# Altium footprint library openmv-ae3.PcbLib: 51 footprints (part 1 of 4)
Each footprint in its own frame and in the unit in brackets; x right, y up, seen from the top. Pads: shape width x height; smd on the part's side, far side on the other; paste and mask are expansions set on the pad; w line width, h text height; cw(c..) or ccw(c..) is an arc to the next point about the centre after c.
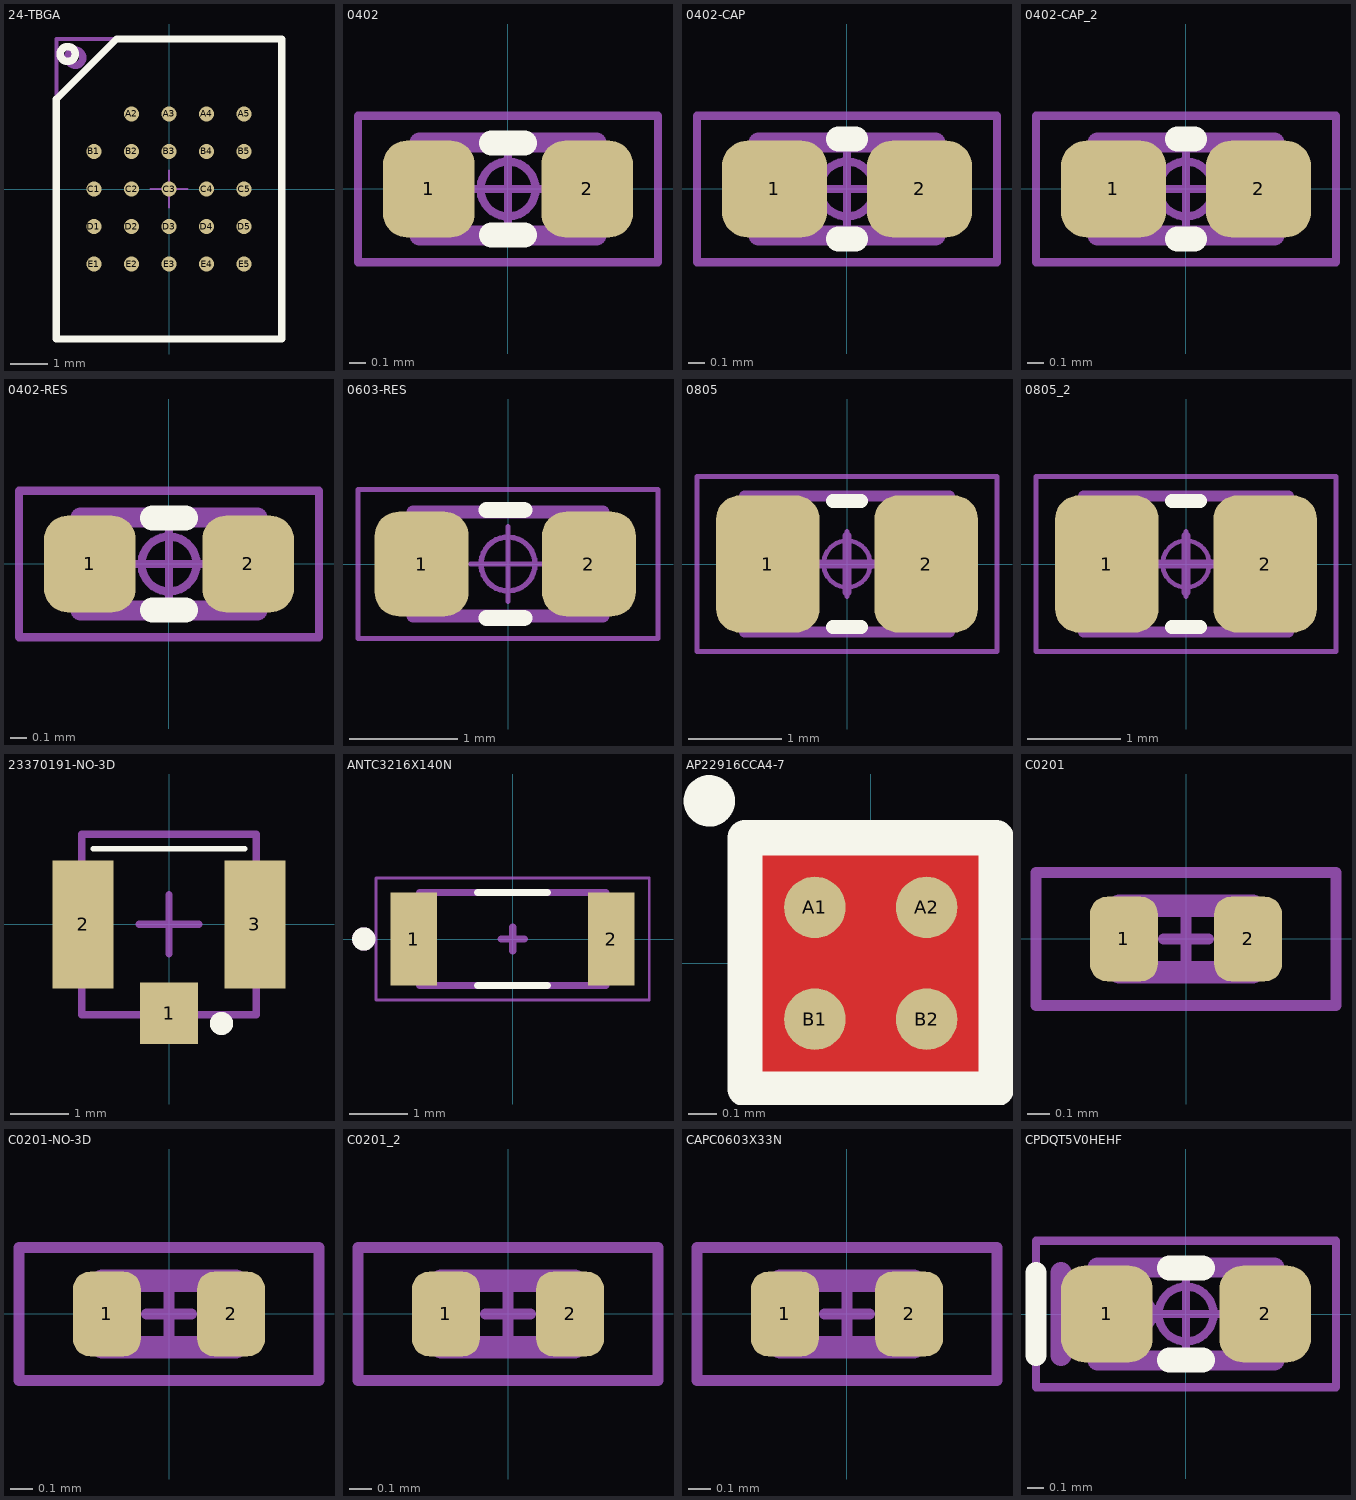
[diagram p0: the footprints below, top view; thin cyan lines are the x and y axes]

## 24-TBGA [mm]
pads (24):
  round 0.4 smd mask+0.051: A2(-1,2) A3(0,2) A4(1,2) A5(2,2) B1(-2,1) B2(-1,1) B3(0,1) B4(1,1) B5(2,1) C1(-2,0) C2(-1,0) C3(0,0) C4(1,0) C5(2,0) D1(-2,-1) D2(-1,-1) D3(0,-1) D4(1,-1) D5(2,-1) E1(-2,-2) E2(-1,-2) E3(0,-2) E4(1,-2) E5(2,-2)
Top Overlay:
  circle w0.2: c-2.7,3.6 r0.2
  lines w0.2: -3,-4 3,-4 3,4 -1.4,4 -3,2.4 -3,-4
Top 3D Body:
  circle w0.2: c-2.5,3.5 r0.2
  lines w0.051: -0.5,0 0,0 ; 0,-0.5 0,0 ; 0,0.5 0,0 ; 0.5,0 0,0
  lines w0.1: -3,-4 -3,4 3,4 3,-4 -3,-4
  text ".designator" at -2.2,-3.411 h0.51
3D body: height 0.51, standoff 0, extent -3,-4 3,4

## 0402 [mm] "Chip Resistor, 2-Leads, Body  0402 (in) 1005 (mm), IPC Medium Density"
height 0.5
pads (2):
  rrect51% 0.55x0.58 smd mask+0.05: 1(-0.475,0) 2(0.475,0)
Top Overlay:
  lines w0.15: -0.1,-0.275 0.1,-0.275 ; -0.1,0.275 0.1,0.275
Top 3D Body:
  lines w0.12: -0.53,-0.28 -0.53,0.28 0.53,0.28 0.53,-0.28 -0.53,-0.28
  text ".designator" at -0.432,-0.152 h0.3
Top Courtyard:
  circle w0.05: c0,0 r0.165
  lines w0.05: -0.22,0 0.22,0 ; 0,-0.22 0,0.22 ; -0.9,-0.44 -0.9,0.44 0.9,0.44 0.9,-0.44 -0.9,-0.44
3D body "RES-0402.stp": height 0.34, standoff 0, extent -0.5,-0.25 0.5,0.25

## 0402-CAP [mm] "Chip Capacitor, 2-Leads, Body  0402 (in) 1005 (mm), IPC Medium Density"
height 0.5
pads (2):
  rrect52% 0.63x0.58 smd mask+0.05: 1(-0.435,0) 2(0.435,0)
Top Overlay:
  lines w0.15: -0.05,-0.3 0.05,-0.3 ; -0.05,0.3 0.05,0.3
Top 3D Body:
  lines w0.12: -0.53,-0.28 0.53,-0.28 0.53,0.28 -0.53,0.28 -0.53,-0.28
  text ".designator" at -0.432,-0.178 h0.3
Top Courtyard:
  circle w0.05: c0,0 r0.165
  lines w0.05: -0.22,0 0.22,0 ; 0,-0.22 0,0.22 ; -0.9,-0.44 0.9,-0.44 0.9,0.44 -0.9,0.44 -0.9,-0.44
3D body "CAP-0402.stp": height 0.5, standoff 0, extent -0.5,-0.25 0.5,0.25

## 0402-CAP_2 [mm]
pads (2):
  rrect52% 0.63x0.58 smd mask+0.05: 1(-0.435,0) 2(0.435,0)
Top Overlay:
  lines w0.15: -0.05,-0.3 0.05,-0.3 ; -0.05,0.3 0.05,0.3
Top 3D Body:
  lines w0.12: -0.53,-0.28 0.53,-0.28 0.53,0.28 -0.53,0.28 -0.53,-0.28
  text ".designator" at -0.432,-0.178 h0.3
Top Courtyard:
  circle w0.05: c0,0 r0.165
  lines w0.05: -0.22,0 0.22,0 ; 0,-0.22 0,0.22 ; -0.9,-0.44 0.9,-0.44 0.9,0.44 -0.9,0.44 -0.9,-0.44
3D body "CAP-0402.stp": height 0.5, standoff 0, extent -0.5,-0.25 0.5,0.25

## 0402-RES [mm] "Chip Resistor, 2-Leads, Body  0402 (in) 1005 (mm), IPC Medium Density"
height 0.5
pads (2):
  rrect51% 0.55x0.58 smd mask+0.05: 1(-0.475,0) 2(0.475,0)
Top Overlay:
  lines w0.15: -0.1,-0.275 0.1,-0.275 ; -0.1,0.275 0.1,0.275
Top 3D Body:
  lines w0.12: -0.53,-0.28 0.53,-0.28 0.53,0.28 -0.53,0.28 -0.53,-0.28
  text ".designator" at -0.432,-0.152 h0.3
Top Courtyard:
  circle w0.05: c0,0 r0.165
  lines w0.05: -0.22,0 0.22,0 ; 0,-0.22 0,0.22 ; -0.9,-0.44 0.9,-0.44 0.9,0.44 -0.9,0.44 -0.9,-0.44
3D body "RES-0402.stp": height 0.34, standoff 0, extent -0.5,-0.25 0.5,0.25

## 0603-RES [mm]
height 1.3
pads (2):
  rrect51% 0.87x0.97 smd mask+0.05: 1(-0.8,0) 2(0.75,0)
Top Overlay:
  lines w0.15: -0.2,-0.5 0.15,-0.5 ; -0.2,0.5 0.15,0.5
Top 3D Body:
  lines w0.12: -0.88,-0.48 -0.88,0.48 0.88,0.48 0.88,-0.48 -0.88,-0.48
  text ".designator" at -0.762,-0.305 h0.3
Top Courtyard:
  circle w0.05: c0,0 r0.25
  lines w0.05: -0.345,0 0.345,0 ; 0,-0.345 0,0.345 ; -1.39,-0.69 1.39,-0.69 1.39,0.69 -1.39,0.69 -1.39,-0.69
3D body "R0603.step": height 0.45, standoff 0, extent -0.8,-0.4 0.8,0.4

## 0805 [mm] "Chip Capacitor, Body 0805 imperial, 2.0x1.2mm, IPC Medium Density"
height 0.7
pads (2):
  rrect45% 1.11x1.47 smd mask+0.05: 1(-0.85,0) 2(0.85,0)
Top Overlay:
  lines w0.15: -0.15,-0.675 0.15,-0.675 ; -0.15,0.675 0.15,0.675
Top 3D Body:
  lines w0.1: -0.3,0 0,0 ; 0,-0.3 0,0 ; 0,0.3 0,0 ; 0.3,0 0,0
  lines w0.12: -1.1,-0.73 -1.1,0.73 1.1,0.73 1.1,-0.73 -1.1,-0.73
  text ".designator" at -1,-0.625 h0.3
Top Courtyard:
  circle w0.05: c0,0 r0.25
  lines w0.05: -0.35,0 0.35,0 ; 0,-0.35 0,0.35 ; -1.61,-0.94 -1.61,0.94 1.61,0.94 1.61,-0.94 -1.61,-0.94
3D body "CAP-0805.stp": height 1.25, standoff 0, extent -1,-0.625 1,0.625

## 0805_2 [mm]
pads (2):
  rrect45% 1.11x1.47 smd mask+0.05: 1(-0.85,0) 2(0.85,0)
Top Overlay:
  lines w0.15: -0.15,-0.675 0.15,-0.675 ; -0.15,0.675 0.15,0.675
Top 3D Body:
  lines w0.1: -0.3,0 0,0 ; 0,-0.3 0,0 ; 0,0.3 0,0 ; 0.3,0 0,0
  lines w0.12: -1.1,-0.73 -1.1,0.73 1.1,0.73 1.1,-0.73 -1.1,-0.73
  text ".designator" at -1,-0.625 h0.3
Top Courtyard:
  circle w0.05: c0,0 r0.25
  lines w0.05: -0.35,0 0.35,0 ; 0,-0.35 0,0.35 ; -1.61,-0.94 -1.61,0.94 1.61,0.94 1.61,-0.94 -1.61,-0.94
3D body "CAP-0805.stp": height 1.25, standoff 0, extent -1,-0.625 1,0.625

## 23370191-NO-3D [mm] "23370191"
pads (3):
  rect 1x1.05 smd: 1(0,-1.525)
  rect 1.05x2.2 smd: 2(-1.475,0) 3(1.475,0)
Top Overlay:
  lines w0.1: -1.3,1.3 1.3,1.3
  lines w0.2: 0.8,-1.7 ccw(c0.9,-1.7) 1,-1.7 ccw(c0.9,-1.7) 0.8,-1.7
Top 3D Body:
  lines w0.127: -0.508,0 0,0 ; 0,-0.508 0,0 ; 0,0.508 0,0 ; 0.508,0 0,0 ; -1.5,-1.55 1.5,-1.55 1.5,1.55 -1.5,1.55 -1.5,-1.55
  text ".designator" at -1.325,-1.65 h0.64

## ANTC3216X140N [mm] "ANTC3216X140N"
pads (2):
  rect 0.8x1.6 smd: 1(-1.7,0) 2(1.7,0)
Top Overlay:
  circle w0.2: c-2.558,0 r0.1
  lines w0.127: -0.6,-0.8 0.6,-0.8 ; -0.6,0.8 0.6,0.8
Top 3D Body:
  circle w0.2: c-2.558,0 r0.1
  lines w0.127: -0.2,0 0.2,0 ; 0,-0.2 0,0.2 ; -1.6,-0.8 1.6,-0.8 1.6,0.8 -1.6,0.8 -1.6,-0.8
  text ".designator" at -1.5,0.75 h0.64
Top Courtyard:
  lines w0.05: -2.35,-1.05 2.35,-1.05 2.35,1.05 -2.35,1.05 -2.35,-1.05
3D body "step_temp.STEP": height 1.2, standoff 0, extent -1.6,-0.8 1.6,0.8

## AP22916CCA4-7 [mm]
pads (4):
  round 0.22 smd mask+0.05: A1(-0.2,0.2) A2(0.2,0.2) B1(-0.2,-0.2) B2(0.2,-0.2)
Top Layer:
  pour cut-out: -0.4,0.4 -0.4,-0.4 0.4,-0.4 0.4,0.4 0.375,0.4
Top Overlay:
  circle w0.1: c-0.578,0.582 r0.042
  lines w0.127: -0.45,-0.45 0.45,-0.45 0.45,0.45 -0.45,0.45 -0.45,-0.45
Top 3D Body:
  circle w0.1: c-0.297,0.29 r0.018
  lines w0.051: -0.125,0 0,0 ; 0,-0.125 0,0 ; 0,0.125 0,0 ; 0.125,0 0,0 ; -0.4,-0.4 -0.4,0.4 0.4,0.4 0.4,-0.4 -0.4,-0.4
  text ".designator" at -0.345,-0.452 h0.51
3D body: height 0.51, standoff 0, extent -0.4,-0.4 0.4,0.4

## C0201 [mil]
pads (2):
  rrect50% 12x15 smd mask+1.97: 1(-11,0) 2(11,0)
Top 3D Body:
  lines w3.94: -11.81,-5.91 11.81,-5.91 11.81,5.91 -11.81,5.91 -11.81,-5.91
  text ".designator" at -7.87,-2.95 h15.75
Top Courtyard:
  lines w1.97: -3.94,0 0,0 ; 0,-3.94 0,0 ; 0,3.94 0,0 ; 3.94,0 0,0 ; -26.57,-11.81 26.57,-11.81 26.57,11.81 -26.57,11.81 -26.57,-11.81
3D body "C0201_035.step": height 13.78, standoff 0, extent -11.82,-5.89 11.8,5.92

## C0201-NO-3D [mil] "0201 IPC-7351"
height 10.24
pads (2):
  rrect50% 12x15 smd mask+1.97: 1(-11,0) 2(11,0)
Top 3D Body:
  lines w3.94: -11.81,-5.91 -11.81,5.91 11.81,5.91 11.81,-5.91 -11.81,-5.91
  text ".designator" at -7.87,-2.95 h15.75
Top Courtyard:
  lines w1.97: -3.94,0 0,0 ; 0,-3.94 0,0 ; 0,3.94 0,0 ; 3.94,0 0,0 ; -26.57,-11.81 -26.57,11.81 26.57,11.81 26.57,-11.81 -26.57,-11.81

## C0201_2 [mil]
pads (2):
  rrect50% 12x15 smd mask+1.97: 1(-11,0) 2(11,0)
Top 3D Body:
  lines w3.94: -11.81,-5.91 -11.81,5.91 11.81,5.91 11.81,-5.91 -11.81,-5.91
  text ".designator" at -7.87,-2.95 h15.75
Top Courtyard:
  lines w1.97: -3.94,0 0,0 ; 0,-3.94 0,0 ; 0,3.94 0,0 ; 3.94,0 0,0 ; -26.57,-11.81 -26.57,11.81 26.57,11.81 26.57,-11.81 -26.57,-11.81
3D body "C0201_035.step": height 13.78, standoff 0, extent -11.82,-5.89 11.8,5.92

## CAPC0603X33N [mil] "CAPC0603X33N"
pads (2):
  rrect50% 12x15 smd mask+1.97: 1(-10.97,-0.04) 2(11.03,-0.04)
Top Solder:
  rectangle: -6.97,-9.04 8.03,8.96
Top 3D Body:
  lines w3.94: -11.78,-5.95 11.84,-5.95 11.84,5.86 -11.78,5.86 -11.78,-5.95
  text ".designator" at -7.85,-2.99 h15.75
Top Courtyard:
  lines w1.97: -3.91,-0.04 0.03,-0.04 ; 0.03,-3.98 0.03,-0.04 ; 0.03,3.9 0.03,-0.04 ; 3.97,-0.04 0.03,-0.04 ; -26.55,-11.85 26.6,-11.85 26.6,11.77 -26.55,11.77 -26.55,-11.85
3D body "C0201_035.step": height 13.78, standoff 0, extent -11.79,-5.93 11.84,5.88

## CPDQT5V0HEHF [mm]
pads (2):
  rrect51% 0.55x0.58 smd mask+0.05: 1(-0.475,0) 2(0.475,0)
Top Overlay:
  lines w0.127: -0.9,-0.25 -0.9,0.25
  lines w0.15: -0.1,-0.275 0.1,-0.275 ; -0.1,0.275 0.1,0.275
Top 3D Body:
  circle w0.254: c-0.3,0 r0
  lines w0.12: -0.53,-0.28 0.53,-0.28 0.53,0.28 -0.53,0.28 -0.53,-0.28
  lines w0.127: -0.75,-0.25 -0.75,0.25
  text ".designator" at -0.2,-0.2 h0.3
Top Courtyard:
  circle w0.05: c0,0 r0.165
  lines w0.05: -0.22,0 0.22,0 ; 0,-0.22 0,0.22 ; -0.9,-0.44 0.9,-0.44 0.9,0.44 -0.9,0.44 -0.9,-0.44
3D body "RES-0402.stp": height 0.34, standoff 0, extent -0.5,-0.25 0.5,0.25